# EAGLE library part BH1750FVI (library FlashPCB_Sensors)
BH1750FVI - Digital 16bit Serial Output Type Ambient Light Sensor IC Technical Specifications: Measurement variation: +/- 20% Measurement range: min .11 lx , max 100000 lx Component Search: BH1750FVI <flashpcb.com/components> Datasheet: BH1750FVI : Sensor ICs <https://www.mouser.com/datasheet/2/348/bh1750fvi-e-186247.pdf>
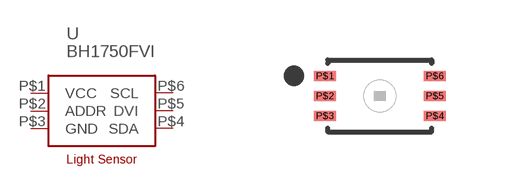
[diagram p5: symbol with the pads of 6-WSOF-BH1750; footprint 6-WSOF-BH1750]

Designator prefix U

## BH1750FVIBH1750FVI  [6-WSOF-BH1750]
P$1  VCC  pwr
P$2  ADDR
P$3  GND  pwr
P$4  SDA
P$5  DVI
P$6  SCL

## Footprint 6-WSOF-BH1750 (pad centres in mm)
smd 0.55 x 0.25: P$1 -1.375,0.5; P$2 -1.375,0; P$3 -1.375,-0.5; P$4 1.375,-0.5; P$5 1.375,0; P$6 1.375,0.5